# Altium schematic symbol library Fuses.SchLib: 4 symbols
Pins are listed as number, name and electrical type; pins without a type are passive.

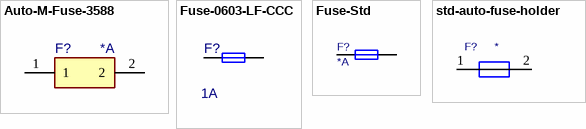
[diagram p0: symbols Auto-M-Fuse-3588 to std-auto-fuse-holder]

## Auto-M-Fuse-3588
designator F?  Current (A): *A  (hidden comment: *)
Fuse Holder SMT MINI FUSE HOLDER .630 X .290 / & LittleFuse 0297xxx; Manufacturer_Name: Keystone Electronics; Manufacturer Part Number: 3588; Current Rating: 20A; Voltage Rating (AC): 500; ComponentLink1Description: Datasheet; ComponentLink1URL: https://www.keyelco.com/product-pdf.cfm?p=311; ComponentLink2Description: Datasheet-2; ComponentLink2URL: https://www.littelfuse.com/assetdocs/littelfuse-datasheet-297-mini32v?assetguid=42c9dd21-a88e-4328-8e67-2f832444faf1; Part Number: 0297xxx
footprint 3588
pins: 1, 2

## Fuse-0603-LF-CCC
designator F?, comment value 1A  (hidden comment: Fuse)
0603 Size Lead-Free, Halogen Free, High Temperature Very Fast-Acting Ceramic Fuse, 438 Series; Manufacturer: Littelfuse; PartNumber: 0438001.WR; Voltage Rating (AC): 32V; DC Cold Resistance: 310mR; Fuse Type: Board Mount (Cartridge Style Excluded); Voltage Rating: 63V; Power Dissipation: 351mW; Approvals: UL,CSA; Voltage (V): *; Tolerance: *; Capacitance: *; Type: Fuse; Power (W): *; Resistance: *; Current (A): 1A; ComponentLink1Description: Manufacturer; ComponentLink1URL: https://www.littelfuse.com/products/fuses/surface-mount-fuses/thin-film-chip-fuses/438.aspx; ComponentLink2Description: Datasheet; ComponentLink2URL: https://www.littelfuse.com/media?resourcetype=datasheets&itemid=9877a1b8-2231-4682-bbef-54e2bfd4d482&filename=littelfuse-fuse-438-datasheet; Supplier 1: Mouser; Manufacturer Part Number: 0438001.WR; RoHS: Yes; Category: Fuses; Stock 1: 11641; Pricing 1: 1=1,32000, 10=1,02000, 50=1,02000, 100=0,84600, 1000=0,61300, 10000=0,55900 (USD); Mount: Surface Mount; Case/Package: 0603; Number of Pins: 2; Case Code (Metric): 1608; Case Code (Imperial): 0603; Body Material: Ceramic; Housing Material: Ceramic; Terminal Material: Nickel; Min Operating Temperature: -55°C; Max Operating Temperature: 150°C; Current Rating: 1A; Voltage Rating (DC): 32V; Packaging: Tape and Reel; Package Quantity: 3000; Working Voltage: 32V; Fuse Current: 1A; Series: 438; Length: 1.54mm; Width: 0.85mm; Height: 0.502mm; Depth: 0.85mm; Radiation Hardening: No; Reach SVHC Compliant: Yes; Lead Free: Lead Free; RoHS Compliant: Yes; Supplier 2: RSComponents; Supplier 3: Arrow Electronics; Supplier Part Number 3: 0438001.WR; Supplier Part Number 2: 8207105; Supplier Part Number 1: 576-0438001.WR
footprint Fuse_0603(1608)_CCC (Chip Fuse for CCC, 2-Leads, Body 1.60x0.85mm, IPC Low Density)
pins: 1, 2

## Fuse-Std
designator F?, comment value *A  (hidden comment: Fuse)
Manufacturer: *; Voltage (V): *; Tolerance: *; Capacitance: *; Type: Fuse; Power (W): *; Resistance: *; Manufacturer P/N: *; Current (A): *A
footprint 0SPF002.HXR (2A 1000V Fuse)
footprint LF_0154
footprint 0527040.UXTHP (40A 500V)
footprint 1350HV
pins: 1, 2

## std-auto-fuse-holder
designator F?
std tht automotive fuse holder; Current (A): *; Voltage (V): *
footprint 3557-2
footprint H18102X4
pins: 1, 2